# Altium schematic symbol library Components - 30.06.23 - 15.16.SchLib: 1 symbol
Pins are listed as number, name and electrical type; pins without a type are passive.

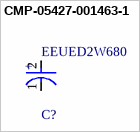
[diagram p0: symbol CMP-05427-001463-1]

## CMP-05427-001463-1
designator C?, comment EEUED2W680
Aluminum Electrolytic Capacitors (Radial Lead Type) 68uF ±20% 450V; Polarity: Polar; Lead Diameter: 0.8mm; Dissipation Factor: 0.24%; Ripple Current (AC): 1.3A; Life (Hours): 10000Hour; Dielectric Material: Aluminium; Number of Pins: 2; REACH SVHC: No SVHC; Height - Seated (Max): 1.575inch; Series: ED; Min Operating Temperature: -25°C; Packaging: Bulk; Height: 40mm; Mount: Through Hole; Termination: Radial; Case/Package: Radial; Max Operating Temperature: 105°C; RoHS Compliant: Yes; Length: 40mm; Voltage Rating (DC): 450V; Capacitance: 68uF; Voltage: 450V; Construction: RADIAL; Lead Pitch: 7.5mm; Lead Free: Lead Free; Radiation Hardening: No; Package Quantity: 50; Ripple Current: 1.3A; Voltage Rating: 450V; Tolerance: 20%; Diameter: 18mm
footprint FP-RAD-TH-D_18_0_5-L_40_2-MFG H
pins: 1 C, 2 A
text: +